# Altium schematic symbol library LT8636HV#PBF.SchLib: 1 symbol
Pins are listed as number, name and electrical type; pins without a type are passive.

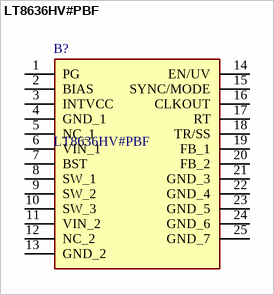
[diagram p0: symbol LT8636HV#PBF]

## LT8636HV#PBF
designator B?
42V, 5A/7A Peak Synchronous Step-Down Silent Switcher with 2.5uA Quiescent Current; Manufacturer_Name: Analog Devices; Geometry.Height: 1.03mm; Mouser Part Number: 584-LT8636HV#PBF; Mouser Price/Stock: https://www.mouser.co.uk/ProductDetail/Analog-Devices/LT8636HVPBF?qs=P1JMDcb91o4F2ogaQ2J9Vg%3D%3D; Manufacturer_Part_Number: LT8636HV#PBF; Datasheet Link: https://www.analog.com/media/en/technical-documentation/data-sheets/lt8636-8637.pdf
footprint LT8636HVPBF
pins: 1 PG, 2 BIAS, 3 INTVCC, 4 GND_1, 5 NC_1, 6 VIN_1, 7 BST, 8 SW_1, 9 SW_2, 10 SW_3, 11 VIN_2, 12 NC_2, 13 GND_2, 14 EN/UV, 15 SYNC/MODE, 16 CLKOUT, 17 RT, 18 TR/SS, 19 FB_1, 20 FB_2, 21 GND_3, 22 GND_4, 23 GND_5, 24 GND_6, 25 GND_7